# Altium footprint library XTAL_ABM3B-8.000MHZ-10-1UT.PcbLib: 1 footprints
Each footprint in its own frame and in the unit in brackets; x right, y up, seen from the top. Pads: shape width x height; smd on the part's side, far side on the other; paste and mask are expansions set on the pad; w line width, h text height; cw(c..) or ccw(c..) is an arc to the next point about the centre after c.
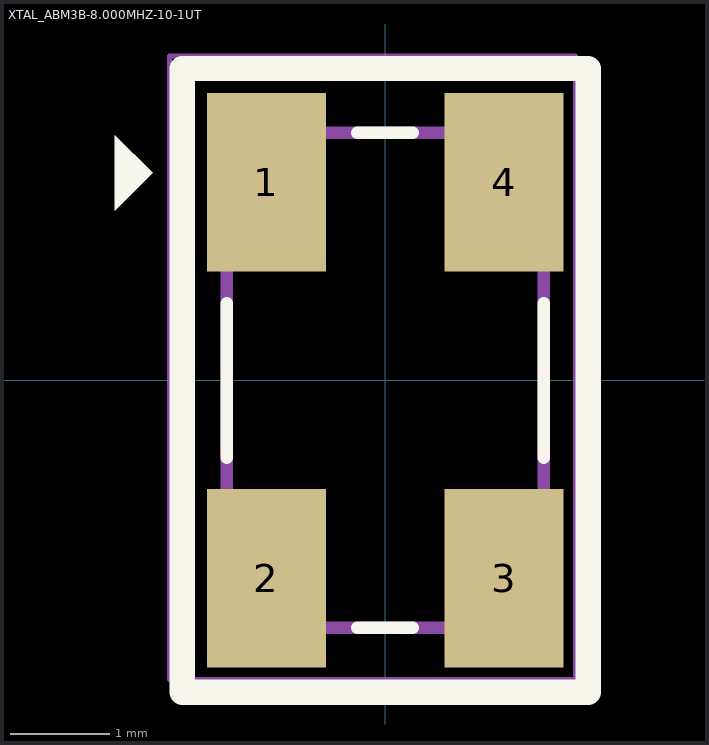
[diagram p0: the footprint, top view; thin cyan lines are the x and y axes]

## XTAL_ABM3B-8.000MHZ-10-1UT [mm]
height 1.1
pads (4):
  rect 1.2x1.8 smd: 1(-1.2,2) 2(-1.2,-2) 3(1.2,-2) 4(1.2,2)
Top Overlay:
  region: -2.73,2.476 -2.73,1.714 -2.349,2.095
  lines w0.127: -1.6,-0.78 -1.6,0.78 ; -0.28,-2.5 0.28,-2.5 ; -0.28,2.5 0.28,2.5 ; 1.6,-0.78 1.6,0.78
  lines w0.254: -2.05,-3.15 2.05,-3.15 2.05,3.15 -2.05,3.15 -2.05,-3.15
Mechanical 13:
  lines w0.127: -1.6,-2.5 -1.6,2.5 1.6,2.5 1.6,-2.5 -1.6,-2.5
Mechanical 15:
  lines w0.05: -2.177,-3.023 -2.177,3.277 1.923,3.277 1.923,-3.023 -2.177,-3.023
3D body "step_temp.STEP": height 1.1, standoff -0.01, extent -1.587,-2.5 1.587,2.5